# Altium footprint library NXP.PcbLib: 3 footprints
Each footprint in its own frame and in the unit in brackets; x right, y up, seen from the top. Pads: shape width x height; smd on the part's side, far side on the other; paste and mask are expansions set on the pad; w line width, h text height; cw(c..) or ccw(c..) is an arc to the next point about the centre after c.
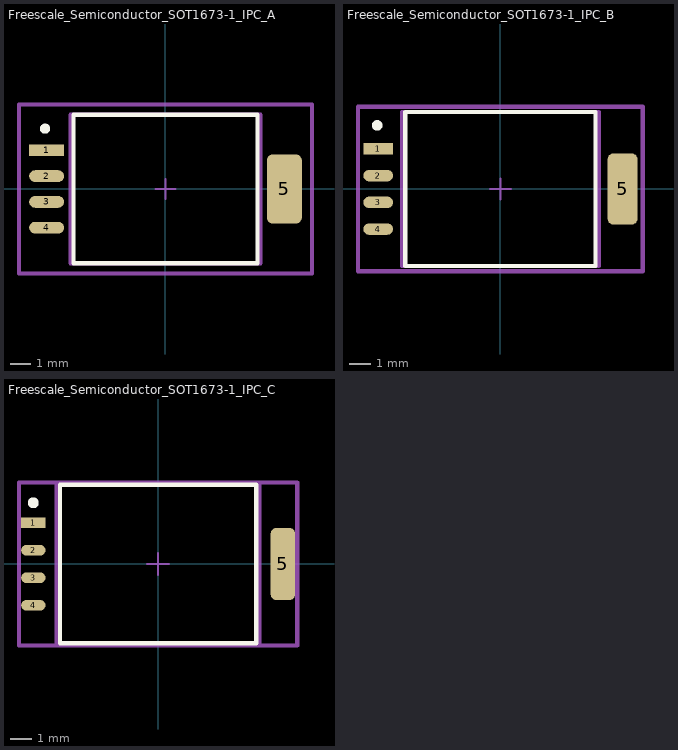
[diagram p0: the footprints below, top view; thin cyan lines are the x and y axes]

## Freescale_Semiconductor_SOT1673-1_IPC_A [mil]
pads (5):
  rect 67.67x22.81 smd paste+0 mask+0: 1(-230.51,75)
  rrect100% 67.67x22.81 smd paste+0 mask+0: 2(-230.51,25) 3(-230.51,-25) 4(-230.51,-75)
  rrect34% 67.67x134.32 smd paste+0 mask+0: 5(230.51,0)
Top Overlay:
  circle w9.84: c-233.46,116.97 r4.92
  lines w7.87: -178.09,-144 178.09,-144 178.09,144 -178.09,144 -178.09,-144
Mechanical 10:
  lines w7.87: -284.03,-163.69 284.03,-163.69 284.03,163.69 -284.03,163.69 -284.03,-163.69
  text ".Designator" at 0,7.39 h39.37
Mechanical 12:
  lines w7.87: -184,-144 184,-144 184,144 -184,144 -184,-144
Mechanical 15:
  lines w3.94: -19.68,0 19.68,0 ; 0,-19.68 0,19.68
  lines w7.87: -284.03,-163.69 284.03,-163.69 284.03,163.69 -284.03,163.69 -284.03,-163.69
3D body "IC_Freescale_Semiconductor_MPXM2053GS_eec.STEP": height 10, standoff 0, extent -284.03,-163.69 284.03,163.69

## Freescale_Semiconductor_SOT1673-1_IPC_B [mil]
pads (5):
  rect 55.86x21.24 smd paste+0 mask+0: 1(-228.54,75)
  rrect100% 55.86x21.24 smd paste+0 mask+0: 2(-228.54,25) 3(-228.54,-25) 4(-228.54,-75)
  rrect38% 55.86x132.74 smd paste+0 mask+0: 5(228.54,0)
Top Overlay:
  circle w9.84: c-230.51,118.94 r4.92
  lines w7.87: -178.09,-144 -178.09,144 178.09,144 178.09,-144 -178.09,-144
Mechanical 10:
  lines w7.87: -266.31,-153.84 -266.31,153.84 266.31,153.84 266.31,-153.84 -266.31,-153.84
  text ".Designator" at 0,7.39 h39.37
Mechanical 12:
  lines w7.87: -184,-144 -184,144 184,144 184,-144 -184,-144
Mechanical 15:
  lines w3.94: -19.68,0 19.68,0 ; 0,-19.68 0,19.68
  lines w7.87: -266.31,-153.84 -266.31,153.84 266.31,153.84 266.31,-153.84 -266.31,-153.84
3D body "IC_Freescale_Semiconductor_MPXM2053GS_eec.STEP": height 10, standoff 0, extent -266.31,-153.84 266.31,153.84

## Freescale_Semiconductor_SOT1673-1_IPC_C [mil]
pads (5):
  rect 44.05x19.66 smd paste+0 mask+0: 1(-226.57,75)
  rrect100% 44.05x19.66 smd paste+0 mask+0: 2(-226.57,25) 3(-226.57,-25) 4(-226.57,-75)
  rrect45% 44.05x131.17 smd paste+0 mask+0: 5(226.57,0)
Top Overlay:
  circle w9.84: c-226.57,111.06 r4.92
  lines w7.87: -178.09,-144 -178.09,144 178.09,144 178.09,-144 -178.09,-144
Mechanical 10:
  lines w7.87: -252.53,-147.94 -252.53,147.94 252.53,147.94 252.53,-147.94 -252.53,-147.94
  text ".Designator" at 0,7.39 h39.37
Mechanical 12:
  lines w7.87: -184,-144 -184,144 184,144 184,-144 -184,-144
Mechanical 15:
  lines w3.94: -19.68,0 19.68,0 ; 0,-19.68 0,19.68
  lines w7.87: -252.53,-147.94 -252.53,147.94 252.53,147.94 252.53,-147.94 -252.53,-147.94
3D body "IC_Freescale_Semiconductor_MPXM2053GS_eec.STEP": height 10, standoff 0, extent -252.53,-147.94 252.53,147.94